# Altium schematic symbol library L6986H.SchLib: 1 symbol
Pins are listed as number, name and electrical type; pins without a type are passive.

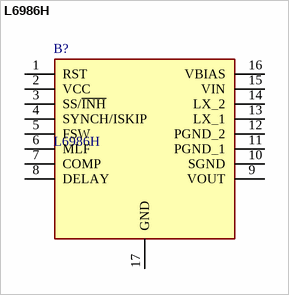
[diagram p0: symbol L6986H]

## L6986H
designator B?
38 V, 2 A synchronous step-down switching regulator with 30 &#181;A quiescent current; Manufacturer_Name: STMicroelectronics; Geometry.Height: 1.2mm; Manufacturer_Part_Number: L6986H; Mouser Part Number: 511-L6986H; Mouser Price/Stock: https://www.mouser.co.uk/ProductDetail/STMicroelectronics/L6986H?qs=vLWxofP3U2yqeL91wKwlTQ%3D%3D; Arrow Part Number: L6986H; Arrow Price/Stock: https://www.arrow.com/en/products/l6986h/stmicroelectronics?region=nac; Datasheet Link: https://www.st.com/resource/en/datasheet/l6986h.pdf
footprint SOP65P640X120-17N
pins: 1 RST, 2 VCC, 3 SS/~{INH}, 4 SYNCH/ISKIP, 5 FSW, 6 MLF, 7 COMP, 8 DELAY, 9 VOUT, 10 SGND, 11 PGND_1, 12 PGND_2, 13 LX_1, 14 LX_2, 15 VIN, 16 VBIAS, 17 GND